# Altium footprint library COM Port.PcbLib: 4 footprints
Each footprint in its own frame and in the unit in brackets; x right, y up, seen from the top. Pads: shape width x height; smd on the part's side, far side on the other; paste and mask are expansions set on the pad; w line width, h text height; cw(c..) or ccw(c..) is an arc to the next point about the centre after c.
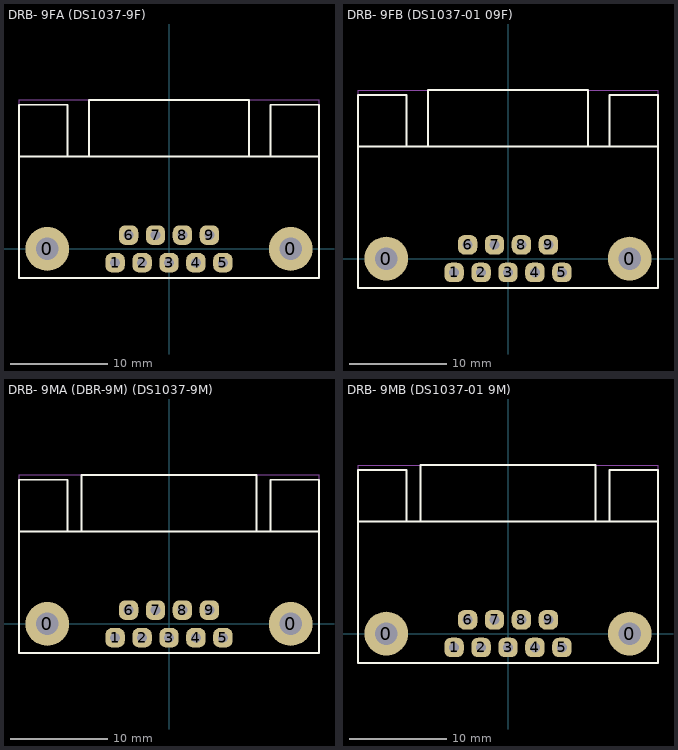
[diagram p0: the footprints below, top view; thin cyan lines are the x and y axes]

## DRB- 9FA (DS1037-9F) [mm]
pads (11):
  round 4.5 hole 2.3: 0(-12.495,0) 0(12.495,0)
  rrect70% 2x2 hole 1: 1(-5.54,-1.42) 2(-2.77,-1.42) 3(0,-1.42) 4(2.77,-1.42) 5(5.54,-1.42) 6(-4.155,1.42) 7(-1.385,1.42) 8(1.385,1.42) 9(4.155,1.42)
Top Overlay:
  lines w0.2: -15.4,9 -15.4,14.8 -10.4,14.8 -10.4,9.5 ; -8.2,9.5 -8.2,15.3 8.2,15.3 8.2,9.5 ; 10.4,9.5 10.4,14.8 15.4,14.8 15.4,9.5 ; 15.4,9.5 -15.4,9.5 -15.4,-3 15.4,-3 15.4,9.5
Border:
  lines w0.1: -15.4,-3 -15.4,15.3 15.4,15.3 15.4,-3 -15.4,-3
3D body "Розетка DRB- 9FA (DS1037-9F).stp": height 12.5, standoff -4, extent -15.4,-3 15.4,15.3

## DRB- 9FB (DS1037-01 09F) [mm]
pads (11):
  round 4.5 hole 2.3: 0(-12.495,0) 0(12.495,0)
  rrect70% 2x2 hole 1: 1(-5.54,-1.42) 2(-2.77,-1.42) 3(0,-1.42) 4(2.77,-1.42) 5(5.54,-1.42) 6(-4.155,1.42) 7(-1.385,1.42) 8(1.385,1.42) 9(4.155,1.42)
Top Overlay:
  lines w0.2: -15.4,11 -15.4,16.8 -10.4,16.8 -10.4,11.5 ; -15.4,11.1 -15.4,-3 15.4,-3 15.4,11.5 ; -15.4,11.5 15.4,11.5 ; -8.2,11.5 -8.2,17.3 8.2,17.3 8.2,11.5 ; 10.4,11.5 10.4,16.8 15.4,16.8 15.4,11.5
Border:
  lines w0.1: -15.4,-3 -15.4,17.3 15.4,17.3 15.4,-3 -15.4,-3
3D body "Розетка DRB- 9FB (DS1037-01 09F).stp": height 12.5, standoff -4, extent -15.4,-3 15.4,17.3

## DRB- 9MA (DBR-9M) (DS1037-9M) [mm]
pads (11):
  round 4.5 hole 2.3: 0(-12.495,0) 0(12.495,0)
  rrect70% 2x2 hole 1: 1(-5.54,-1.42) 2(-2.77,-1.42) 3(0,-1.42) 4(2.77,-1.42) 5(5.54,-1.42) 6(-4.155,1.42) 7(-1.385,1.42) 8(1.385,1.42) 9(4.155,1.42)
Top Overlay:
  lines w0.2: -15.4,9 -15.4,14.8 -10.4,14.8 -10.4,9.5 ; -9,9.5 -9,15.3 9,15.3 9,9.5 ; 10.4,9.5 10.4,14.8 15.4,14.8 15.4,9.5 ; 15.4,9.5 -15.4,9.5 -15.4,-3 15.4,-3 15.4,9.5
Border:
  lines w0.1: -15.4,-3 -15.4,15.3 15.4,15.3 15.4,-3 -15.4,-3
3D body "Вилка DRB- 9MA (DS1037-9M).stp": height 12.5, standoff -4, extent -15.4,-3 15.4,15.3

## DRB- 9MB (DS1037-01 9M) [mm]
pads (11):
  round 4.5 hole 2.3: 0(-12.495,0) 0(12.495,0)
  rrect70% 2x2 hole 1: 1(-5.54,-1.42) 2(-2.77,-1.42) 3(0,-1.42) 4(2.77,-1.42) 5(5.54,-1.42) 6(-4.155,1.42) 7(-1.385,1.42) 8(1.385,1.42) 9(4.155,1.42)
Top Overlay:
  lines w0.2: -15.4,11.5 15.4,11.5 ; -10.4,11.5 -10.4,16.8 -15.4,16.8 -15.4,11 -15.4,-3 15.4,-3 15.4,11.5 ; -9,11.5 -9,17.3 9,17.3 9,11.5 ; 10.4,11.5 10.4,16.8 15.4,16.8 15.4,11.5
Border:
  lines w0.1: -15.4,-3 15.4,-3 15.4,17.3 -15.4,17.3 -15.4,-3
3D body "Вилка DRB- 9MB (DS1037-01 9M).stp": height 12.5, standoff -4, extent -15.4,-3 15.4,17.3